# Altium schematic symbol library Sch Symbols.SchLib: 38 symbols
Pins are listed as number, name and electrical type; pins without a type are passive.

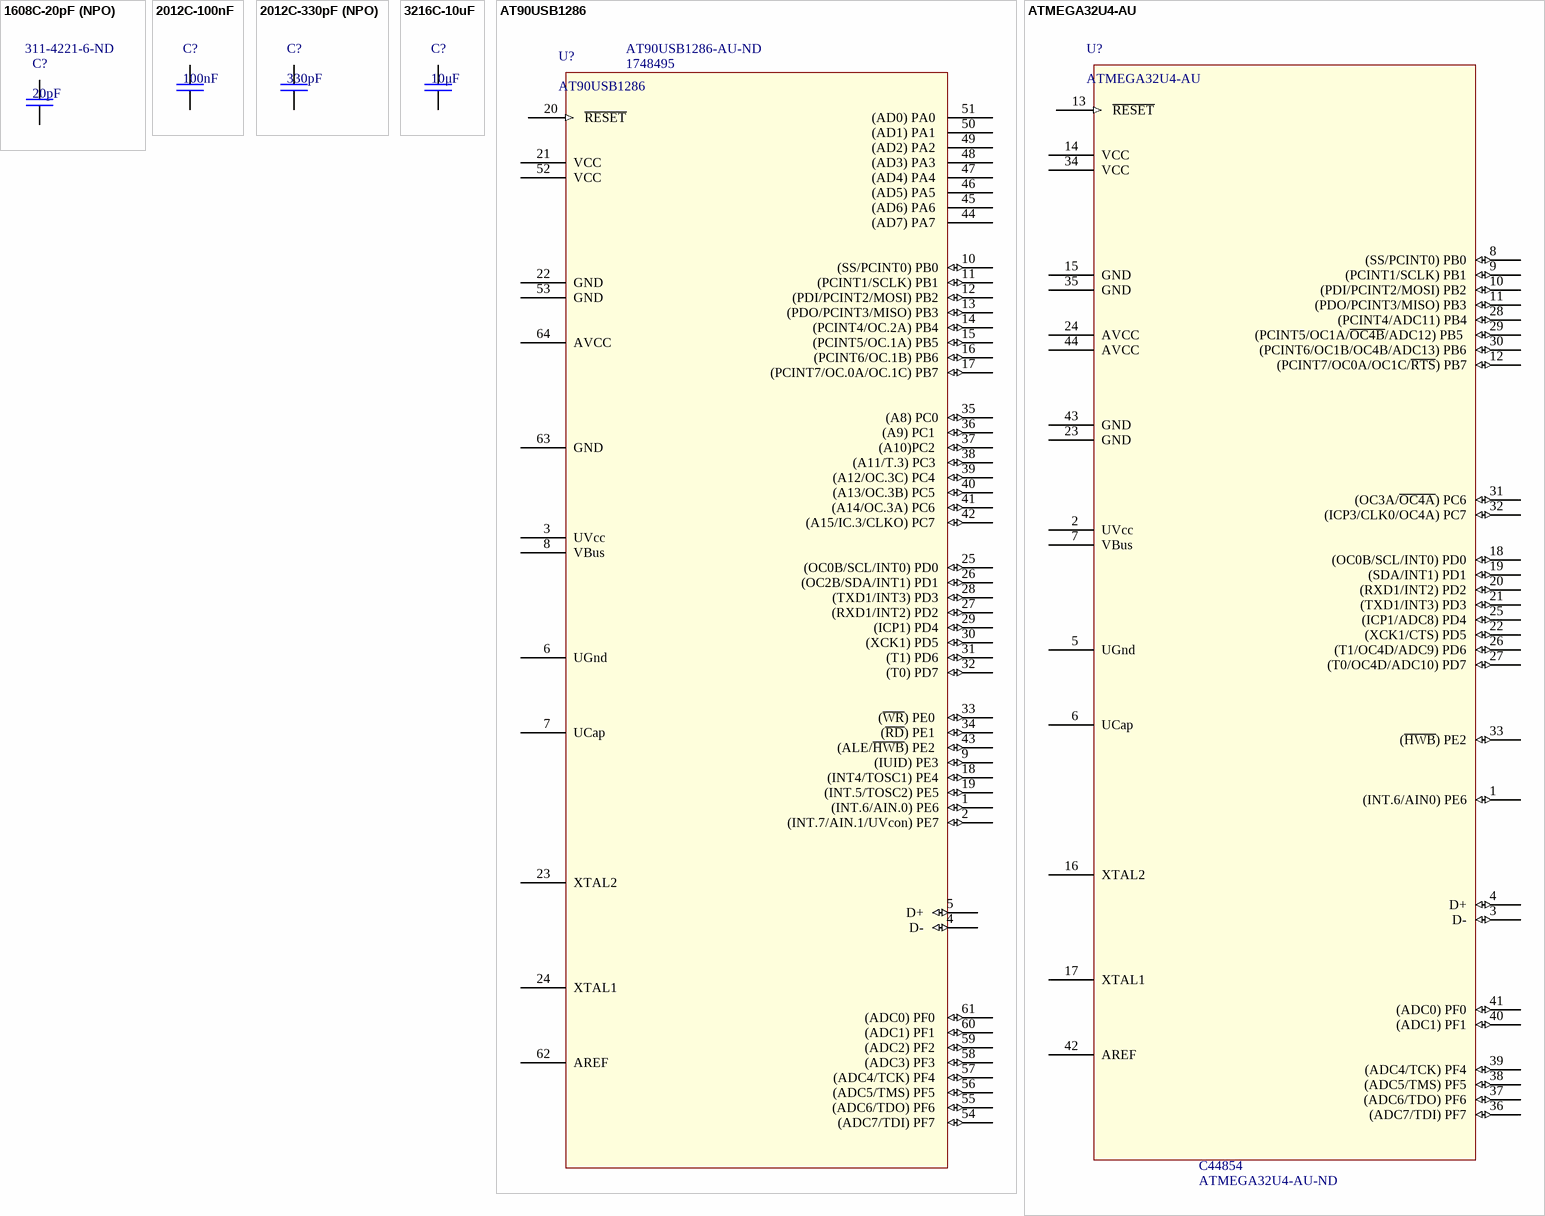
[diagram p0: symbols 1608C-20pF (NPO) to ATMEGA32U4-AU]

## 1608C-20pF (NPO)
designator C?, comment 20pF  Supplier Part Number 1: 311-4221-6-ND
Capacitor MLCC 50V C0G (NP0) ±10%; Supplier 1: Digi-Key
footprint 1608C (0603) (SMD chip component in 1608 (0603) package)
pins: 1, 2

## 2012C-100nF
designator C?, comment 100nF
2012 100nF MLCC Capacitor 50V X7R
footprint 2012C (0805) (2012 (0805) Footprint)
pins: 1, 2

## 2012C-330pF (NPO)
designator C?, comment 330pF
Capacitor MLCC 50V C0G (NP0) ±10%
footprint 2012C (0805) (2012 (0805) Footprint)
pins: 1, 2

## 3216C-10uF
designator C?, comment 10μF
3216, 25V MLCC X5R CAPACITOR
footprint 3216C (1206) (SMD chip component in 3216 (1206) package)
pins: 1, 2

## AT90USB1286
designator U?  Supplier Part Number 1: AT90USB1286-AU-ND  Supplier Part Number 2: 1748495
Atmel AT90USB Series Microcontroller, 16MHz, 128KB, 8KB Ram, 4KB EEPROM, 64 Pin, 48 IO, 2.7V-5.5V; Supplier 1: Digi-Key; Supplier 2: Element14
footprint TQFP-64-0.8 (0.8mm Pitch 64pin TQFP)
pins: 1 (INT.6/AIN.0) PE6 (io), 2 (INT.7/AIN.1/UVcon) PE7 (io), 3 UVcc (power), 4 D- (io), 5 D+ (io), 6 UGnd (power), 7 UCap (power), 8 VBus (power), 9 (IUID) PE3 (io), 10 (SS/PCINT0) PB0 (io), 11 (PCINT1/SCLK) PB1 (io), 12 (PDI/PCINT2/MOSI) PB2 (io), 13 (PDO/PCINT3/MISO) PB3 (io), 14 (PCINT4/OC.2A) PB4 (io), 15 (PCINT5/OC.1A) PB5 (io), 16 (PCINT6/OC.1B) PB6 (io), 17 (PCINT7/OC.0A/OC.1C) PB7 (io), 18 (INT4/TOSC1) PE4 (io), 19 (INT.5/TOSC2) PE5 (io), 20  ~{RESET} (in), 21 VCC (power), 22 GND (power), 23 XTAL2, 24 XTAL1, 25 (OC0B/SCL/INT0) PD0 (io), 26 (OC2B/SDA/INT1) PD1 (io), 27 (RXD1/INT2) PD2 (io), 28 (TXD1/INT3) PD3 (io), 29 (ICP1) PD4 (io), 30 (XCK1) PD5 (io), 31 (T1) PD6 (io), 32 (T0) PD7 (io), 33 (~{WR}) PE0  (io), 34 (~{RD}) PE1  (io), 35 (A8) PC0 (io), 36 (A9) PC1  (io), 37 (A10)PC2  (io), 38 (A11/T.3) PC3  (io), 39 (A12/OC.3C) PC4  (io), 40 (A13/OC.3B) PC5  (io), 41 (A14/OC.3A) PC6  (io), 42 (A15/IC.3/CLKO) PC7  (io), 43 (ALE/~{HWB}) PE2  (io), 44 (AD7) PA7 , 45 (AD6) PA6 , 46 (AD5) PA5 , 47 (AD4) PA4 , 48 (AD3) PA3 , 49 (AD2) PA2 , 50 (AD1) PA1 , 51 (AD0) PA0 , 52 VCC (power), 53 GND (power), 54 (ADC7/TDI) PF7  (io), 55 (ADC6/TDO) PF6  (io), 56 (ADC5/TMS) PF5  (io), 57 (ADC4/TCK) PF4  (io), 58 (ADC3) PF3  (io), 59 (ADC2) PF2  (io), 60 (ADC1) PF1  (io), 61 (ADC0) PF0  (io), 62 AREF, 63 GND, 64 AVCC

## ATMEGA32U4-AU
designator U?  Supplier Part Number 1: C44854  Supplier Part Number 2: ATMEGA32U4-AU-ND
Atmel ATMEGA Series Microcontroller, 16MHz, 32KB, 2.56KB Ram, 1KB EEPROM, 44 Pin, 26 IO, 2.7V-5.5V, TQFP-44; Supplier 1: LCSC; Supplier 2: Digi-Key
footprint TQFP-44-0.8 (0.8mm Pitch 44pin TQFP)
pins: 1 (INT.6/AIN0) PE6 (io), 2 UVcc (power), 3 D- (io), 4 D+ (io), 5 UGnd (power), 6 UCap (power), 7 VBus (power), 8 (SS/PCINT0) PB0 (io), 9 (PCINT1/SCLK) PB1 (io), 10 (PDI/PCINT2/MOSI) PB2 (io), 11 (PDO/PCINT3/MISO) PB3 (io), 12 (PCINT7/OC0A/OC1C/~{RTS}) PB7 (io), 13  ~{RESET} (in), 14 VCC (power), 15 GND (power), 16 XTAL2, 17 XTAL1, 18 (OC0B/SCL/INT0) PD0 (io), 19 (SDA/INT1) PD1 (io), 20 (RXD1/INT2) PD2 (io), 21 (TXD1/INT3) PD3 (io), 22 (XCK1/CTS) PD5 (io), 23 GND, 24 AVCC, 25 (ICP1/ADC8) PD4 (io), 26 (T1/OC4D/ADC9) PD6 (io), 27 (T0/OC4D/ADC10) PD7 (io), 28 (PCINT4/ADC11) PB4 (io), 29 (PCINT5/OC1A/~{OC4B}/ADC12) PB5  (io), 30 (PCINT6/OC1B/OC4B/ADC13) PB6 (io), 31 (OC3A/~{OC4A}) PC6 (io), 32 (ICP3/CLK0/OC4A) PC7 (io), 33 (~{HWB}) PE2 (io), 34 VCC (power), 35 GND (power), 36 (ADC7/TDI) PF7 (io), 37 (ADC6/TDO) PF6 (io), 38 (ADC5/TMS) PF5 (io), 39 (ADC4/TCK) PF4 (io), 40 (ADC1) PF1 (io), 41 (ADC0) PF0 (io), 42 AREF, 43 GND (power), 44 AVCC (power)

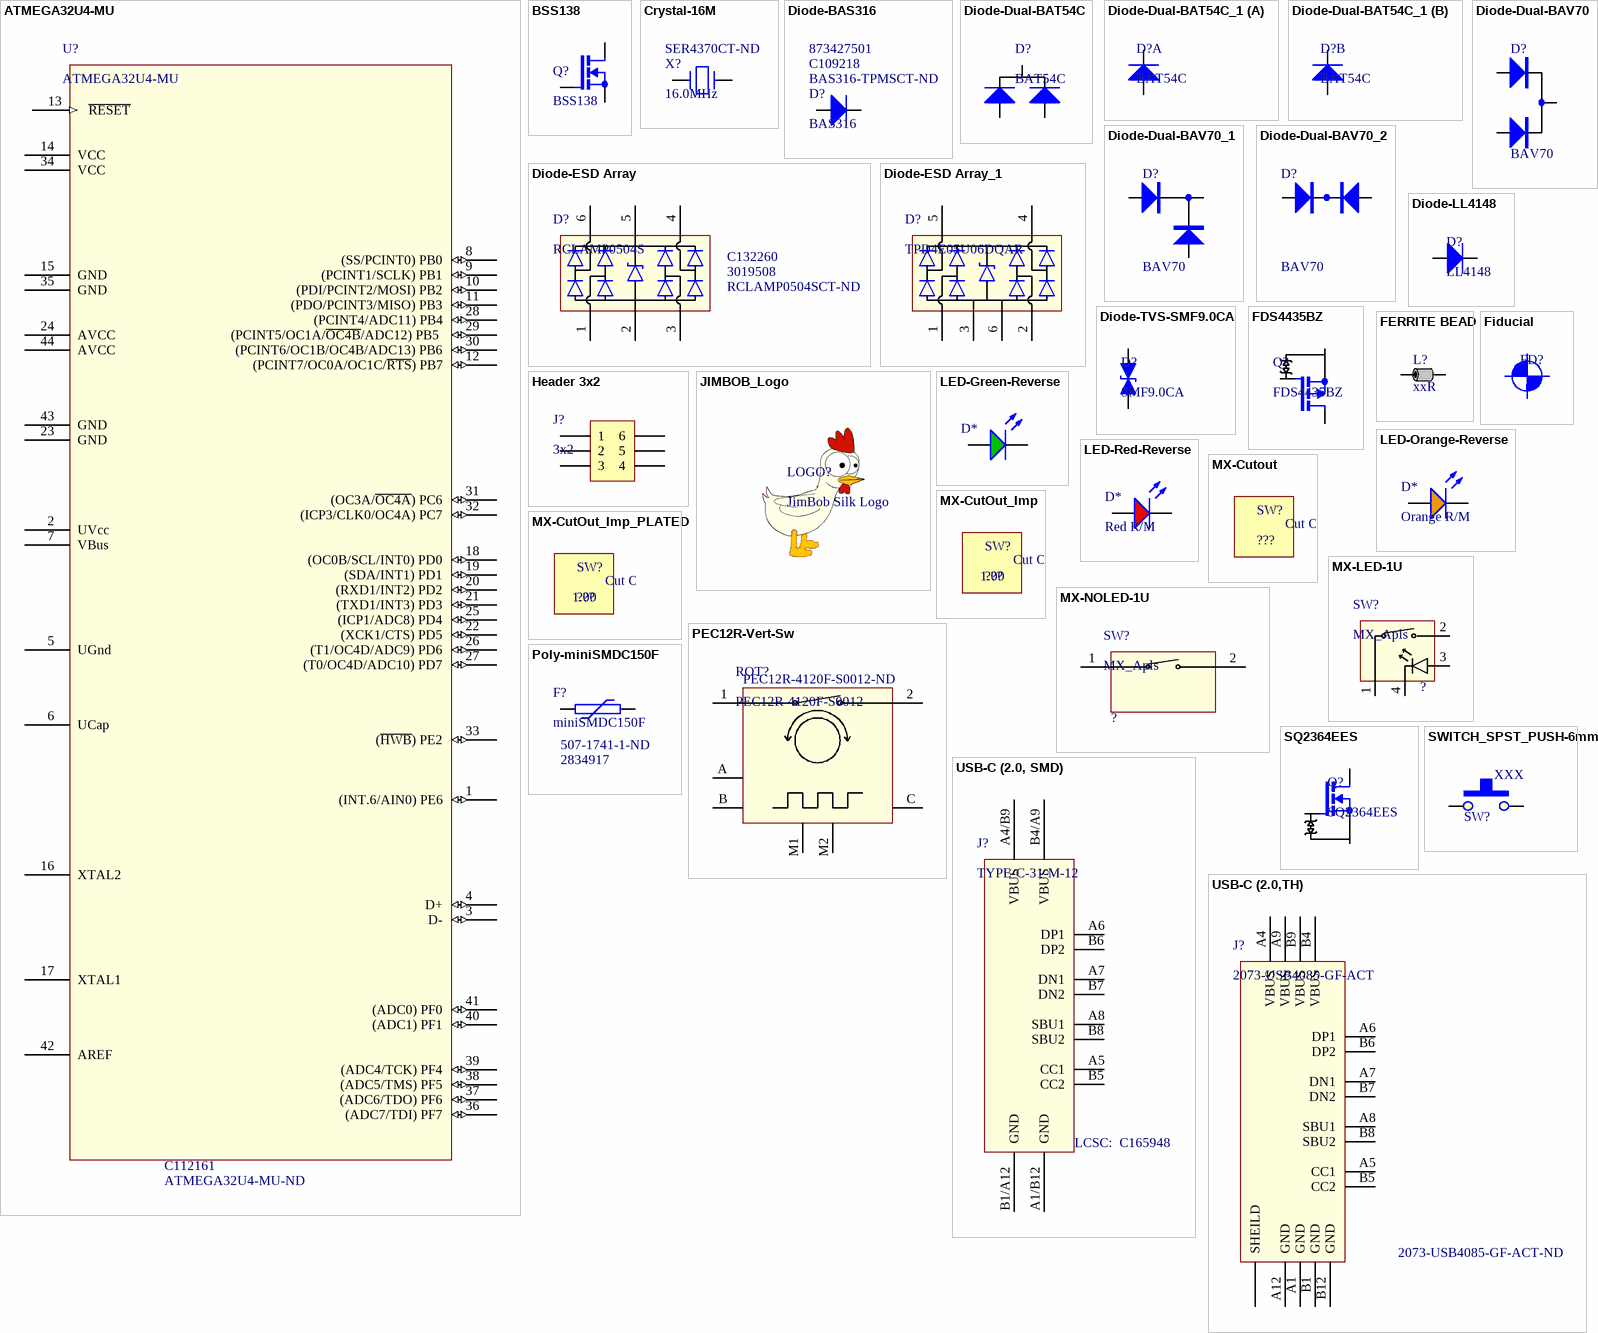
[diagram p1: symbols ATMEGA32U4-MU to USB-C (2.0,TH)]

## ATMEGA32U4-MU
designator U?  Supplier Part Number 1: ATMEGA32U4-MU-ND  Supplier Part Number 2: C112161
Atmel ATMEGA Series Microcontroller, 16MHz, 32KB, 2.56KB Ram, 1KB EEPROM, 44 Pin, 26 IO, 2.7V-5.5V, QFN-44; Supplier 1: Digi-Key; Supplier 2: LCSC
pins: 1 (INT.6/AIN0) PE6 (io), 2 UVcc (power), 3 D- (io), 4 D+ (io), 5 UGnd (power), 6 UCap (power), 7 VBus (power), 8 (SS/PCINT0) PB0 (io), 9 (PCINT1/SCLK) PB1 (io), 10 (PDI/PCINT2/MOSI) PB2 (io), 11 (PDO/PCINT3/MISO) PB3 (io), 12 (PCINT7/OC0A/OC1C/~{RTS}) PB7 (io), 13  ~{RESET} (in), 14 VCC (power), 15 GND (power), 16 XTAL2, 17 XTAL1, 18 (OC0B/SCL/INT0) PD0 (io), 19 (SDA/INT1) PD1 (io), 20 (RXD1/INT2) PD2 (io), 21 (TXD1/INT3) PD3 (io), 22 (XCK1/CTS) PD5 (io), 23 GND, 24 AVCC, 25 (ICP1/ADC8) PD4 (io), 26 (T1/OC4D/ADC9) PD6 (io), 27 (T0/OC4D/ADC10) PD7 (io), 28 (PCINT4/ADC11) PB4 (io), 29 (PCINT5/OC1A/~{OC4B}/ADC12) PB5  (io), 30 (PCINT6/OC1B/OC4B/ADC13) PB6 (io), 31 (OC3A/~{OC4A}) PC6 (io), 32 (ICP3/CLK0/OC4A) PC7 (io), 33 (~{HWB}) PE2 (io), 34 VCC (power), 35 GND (power), 36 (ADC7/TDI) PF7 (io), 37 (ADC6/TDO) PF6 (io), 38 (ADC5/TMS) PF5 (io), 39 (ADC4/TCK) PF4 (io), 40 (ADC1) PF1 (io), 41 (ADC0) PF0 (io), 42 AREF, 43 GND (power), 44 AVCC (power)

## BSS138
designator Q?
N-Channel, 50V, 200mA, Enhancement MOSFET
footprint SOT 23-3-GDS METRIC (Small Outline Transistor)
pins: D, G, S

## Crystal-16M
designator X?, comment 16.0MHz  Supplier Part Number 1: SER4370CT-ND
16MHz Crystal, 16pF, 60R ESR; Supplier 1: Digi-Key
footprint Crystal_4-SMD
pins: 1, 3

## Diode-BAS316
designator D?, comment BAS316  Supplier Part Number 1: BAS316-TPMSCT-ND  Supplier Part Number 2: C109218  Supplier Part Number 3: 873427501
Signal diode, 100V, 250mA, 400mW; Supplier 1: Digi-Key; Supplier 2: LCSC; Supplier 3: Element14
footprint SOD110/SOD323
pins: A +, K -

## Diode-Dual-BAT54C
designator D?, comment BAT54C
SCHOTTKY, 30V, 200mA DUAL DIODE
footprint SOT 23-3 METRIC (Small Outline Transistor)
pins: 1 +, 2 +, 3 -

## Diode-Dual-BAT54C_1
designator D?, comment BAT54C
SCHOTTKY, 30V, 200mA DUAL DIODE
footprint SOT 23-3 METRIC (Small Outline Transistor)
part A pins: 1 +, 3 -
part B pins: 2 +, 3 -

## Diode-Dual-BAV70
designator D?, comment BAV70
Dual diode - Common Cathode; Manufacturer: Fairchild; Price: US$0.0253 Fairchild 1k+
footprint SOT 23-3 METRIC (Small Outline Transistor)
pins: 1 A1, 2 A2, 3 K

## Diode-Dual-BAV70_1
designator D?, comment BAV70
Dual diode - Common Cathode; Manufacturer: Fairchild; Price: US$0.0253 Fairchild 1k+
footprint SOT 23-3 METRIC (Small Outline Transistor)
pins: 1 A1, 2 A2, 3 K

## Diode-Dual-BAV70_2
designator D?, comment BAV70
Dual diode - Common Cathode; Manufacturer: Fairchild; Price: US$0.0253 Fairchild 1k+
footprint SOT 23-3 METRIC (Small Outline Transistor)
pins: 1 A1, 2 A2, 3 K

## Diode-ESD Array
designator D?, comment RCLAMP0504S  Supplier Part Number 1: RCLAMP0504SCT-ND  Supplier Part Number 2: 3019508  Supplier Part Number 3: C132260
TVS Array, Low Capacitance, ESD Protection, 4IO + Pwr, (<3.0pF); Supplier 1: Digi-Key; Supplier 2: Element14; Supplier 3: LCSC
footprint SOT 23-6 (Small Outline Transistor style package)
pins: 1, 2, 3, 4, 5, 6

## Diode-ESD Array_1
designator D?, comment TPD4E05U06DQAR
TVS Array, Low Capacitance, ESD Protection, 4IO + Pwr, (<3.0pF)
footprint USON-10
pins: 1, 2, 3, 4, 5, 6

## Diode-LL4148
designator D?, comment LL4148
300mA, 100V, Small Signal Fast Switching Diodes; Supplier 1: LCSC; Supplier 2: Digi-Key; Supplier Part Number 1: C84135; Supplier Part Number 2: LL4148FSCT-ND
footprint Diode SOD80
pins: A +, K -

## Diode-TVS-SMF9.0CA
designator D?, comment SMF9.0CA
Bi-Directional TVS Diode, Vbr 10V, Vcl 15.4V, 13A, 200W
footprint SOD-123FL
pins: A, K

## FDS4435BZ
designator Q?
P-channel, 30V, 3.2A, 120-75mOhm Enhancement MOSFET with 3.8Kv ESD Protection
footprint SO8-150/200mil-GDS
pins: D, G, S

## FERRITE BEAD
designator L?, comment xxR
SMD Ferrite Bead
footprint 3216 (1206) (SMD chip component in 3216 (1206) package)
pins: 1, 2

## Fiducial
designator FD?  (value not drawn)  (no BOM)
Fiducial Mark
footprint Fiducial

## Header 3x2
designator J?, comment 3x2
0.1 inch, 3 Pin Receptacle, 2 Row
footprint Header-3x2 (0.1 Inch Header, 2 Row, 3 Way)
footprint Header-3x2-NoMod (0.1 Inch Header, 2 Row, 3 Way)
pins: 1, 2, 3, 4, 5, 6

## JIMBOB_Logo
designator LOGO?, comment JimBob Silk Logo
JimBob Silkscreen Logo
footprint JM ELEC LOGO TSLK (JM LOGO on top silk layer)

## LED-Green-Reverse
designator D*, comment Green R/M  (value not drawn)
Reverse mount 1206 Green LED
footprint LED_ZLead (5.4mm Pad Cen-Cen, 1.5mmx1.5mm Pad size)
pins: A, K

## LED-Orange-Reverse
designator D*, comment Orange R/M
Reverse mount 1206 Orange LED
footprint LED_ZLead (5.4mm Pad Cen-Cen, 1.5mmx1.5mm Pad size)
pins: A, K

## LED-Red-Reverse
designator D*, comment Red R/M
Reverse mount 1206 Red LED
footprint LED_ZLead (5.4mm Pad Cen-Cen, 1.5mmx1.5mm Pad size)
pins: A, K

## MX-Cutout
designator SW?, comment ???
Switch Cutouts for MX-Switches using 19mm spacing
footprint 1U
footprint 1.25U
footprint 1.5U
footprint 1.75U
footprint 1.75U-Caps
footprint 2U (Referance from the MX Datasheet)
footprint 2.25U
footprint 2.5U
footprint 2.75U
footprint 3U
footprint 6U
footprint 6.25U
footprint 7U
text: Cut Out

## MX-CutOut_Imp
designator SW?, comment ???  Size: 1.00
Switch Cutouts for MX-Switches using 0.75 Inch spacing
footprint I-1U (Imperial Sizing)
footprint I-1.25U (Imperial Sizing)
footprint I-1.5U (Imperial Sizing)
footprint I-1.75U (Imperial Sizing)
footprint I-1.75U-Caps (Imperial Sizing)
footprint I-2U (Imperial Sizing)
footprint I-2.25U (Imperial Sizing)
footprint I-2.5U (Imperial Sizing)
footprint I-2.75U (Imperial Sizing)
footprint I-3U (Imperial Sizing)
footprint I-6U (Imperial Sizing)
footprint I-6.25U (Imperial Sizing)
footprint I-7U (Imperial Sizing)
text: Cut Out

## MX-CutOut_Imp_PLATED
designator SW?, comment ???  Size: 1.00
Switch Cutouts for MX-Switches using 0.75 Inch spacing
footprint I-1U -  Plated (Imperial Sizing)
footprint I-1.25U - PLATED (Imperial Sizing)
footprint I-1.5U - PLATED (Imperial Sizing)
footprint I-1.75U - PLATED (Imperial Sizing)
footprint I-1.75U-Caps - PLATED (Imperial Sizing)
footprint I-2.25U - PLATED (Imperial Sizing)
footprint I-2.5U - PLATED (Imperial Sizing)
text: Cut Out

## MX-LED-1U
designator SW?, comment MX_Apls
1U - MX_Alps Hybrid Footprint; Key: ?
footprint MX-1U
footprint MX-1.25U
footprint MX-1.5U
footprint MX-1.75U
footprint MX-2U
footprint MX-2.25U
footprint MX-2.75U
footprint MX-3U
footprint MX-6U-CEN
footprint MX-7U
footprint MX-2.5U
pins: 1, 2, 3, 4

## MX-NOLED-1U
designator SW?, comment MX_Apls
1U - MX_Alps Hybrid Footprint(No LED); Key: ?
footprint MX-1U-NoLed
pins: 1, 2

## PEC12R-Vert-Sw
designator ROT?, comment PEC12R-4120F-S0012  Supplier Part Number 1: PEC12R-4120F-S0012-ND
Burns 6mm D-shaft 2-Ch Rotary Encoder with switch, 12ppr, Vertical; Supplier 1: Digi-Key
footprint PEC12R-4xxxF-Sxxxx (Burns 12mmx13mm rotary encoder, vertical, with switch)
footprint PEC12R-4xxxF-Sxxxx-NoMod (Burns 12mmx13mm rotary encoder, vertical, with switch)
pins: 1, 2, A, B, C, M1 M, M2

## Poly-miniSMDC150F
designator F?, comment miniSMDC150F  Supplier Part Number 1: 507-1741-1-ND  Supplier Part Number 2: 2834917
Ih-0.5A, It-1A, Im-100A, 60V POLYFUSE; Supplier 1: Digi-Key; Supplier 2: Element14
footprint 7351 (2920)
pins: 1, 2

## SQ2364EES
designator Q?
N-Channel, 60V, 2A, Enhancement MOSFET With 800V ESD Protection
footprint SOT 23-3-GDS METRIC (Small Outline Transistor)
pins: D, G, S

## SWITCH_SPST_PUSH-6mm
designator SW?, comment XXX
6mm, SPST Tact switch (DPST Only 1 Contact Used)
footprint SW_PB6x6 (6mm square tact switch)
pins: 1 COM, 3 COM

## USB-C (2.0, SMD)
designator J?, comment TYPE-C-31-M-12  Supplier Part Number 1: C165948
USB 2.0 Type-C Connector, 12 Pin, SMD + TH Case; Manufacturer: Korean Hroparts Elec; Supplier 1: LCSC; Manufacturer Part Number: TYPE-C-31-M-12
footprint USB-C (2.0,SMD) (Foortprint for the SMD USB2.0 type C connector TYPE-C-31-M-12)
pins: A1/B12 GND, A4/B9 VBUS, A5 CC1, A6 DP1, A7 DN1, A8 SBU1, B1/A12 GND, B4/A9 VBUS, B5 CC2, B6 DP2, B7 DN2, B8 SBU2
text: LCSC:

## USB-C (2.0,TH)
designator J?, comment 2073-USB4085-GF-ACT  Supplier Part Number 1: 2073-USB4085-GF-ACT-ND
USB 2.0 Type-C Connector, 16 Pin, TH + TH Case; Supplier 1: Digi-Key
footprint USB-C (2.0,TH) (Foortprint for the TH USB2.0 type C connector USB4085-GF-A)
pins: A1 GND, A4 VBUS, A5 CC1, A6 DP1, A7 DN1, A8 SBU1, A9 VBUS, A12 GND, B1 GND, B4 VBUS, B5 CC2, B6 DP2, B7 DN2, B8 SBU2, B9 VBUS, B12 GND, SHEILD